# Altium footprint library PcbLib1.PcbLib: 21 footprints (part 2 of 2)
Each footprint in its own frame and in the unit in brackets; x right, y up, seen from the top. Pads: shape width x height; smd on the part's side, far side on the other; paste and mask are expansions set on the pad; w line width, h text height; cw(c..) or ccw(c..) is an arc to the next point about the centre after c.
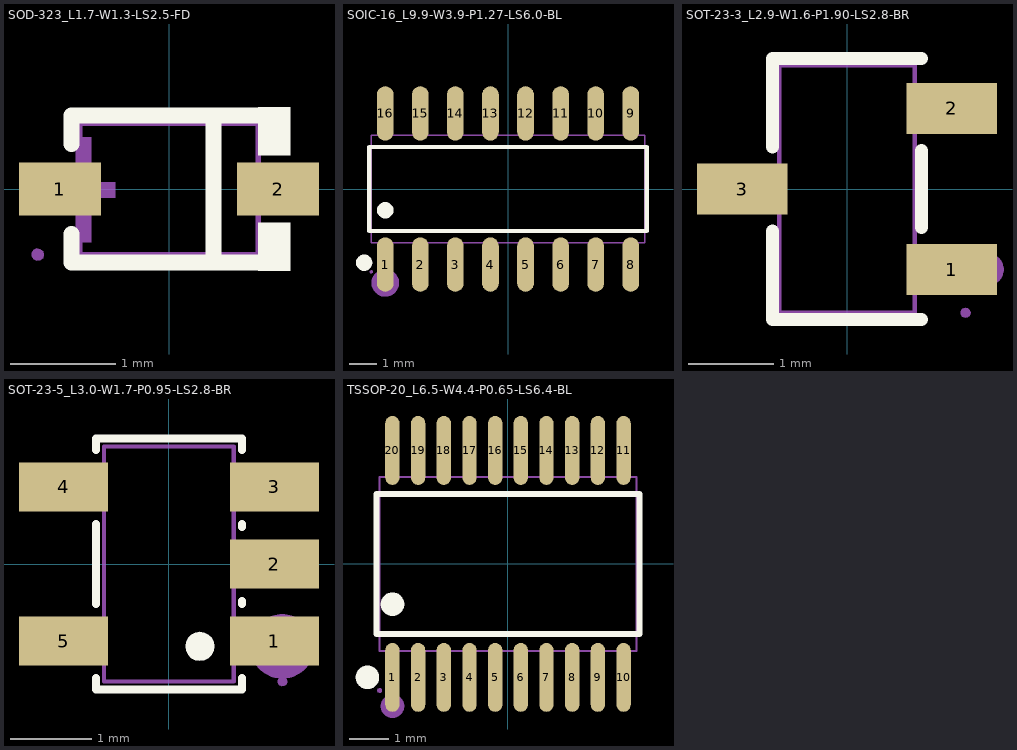
[diagram p1: the footprints below, top view; thin cyan lines are the x and y axes]

## SOD-323_L1.7-W1.3-LS2.5-FD [mm]
pads (2):
  rect 0.78x0.5 smd: 1(-1.039,0) 2(1.039,0)
Top Overlay:
  region: 0.851,-0.32 1.156,-0.32 1.156,-0.777 0.851,-0.777
  region: 0.851,0.32 1.156,0.32 1.156,0.777 0.851,0.777
  lines w0.152: -0.927,-0.429 -0.927,-0.701 0.927,-0.701 ; -0.927,0.429 -0.927,0.701 0.927,0.701 ; 0.422,-0.701 0.422,0.701
Mechanical 2:
  region: -0.889,-0.508 -0.889,0.493 -0.739,0.493 -0.739,-0.508
  region: 1.316,-0.074 1.316,0.076 0.716,0.076 0.716,-0.074
  region: -1.115,-0.084 -1.115,0.066 -0.513,0.066 -0.513,-0.084
Mechanical 6:
  lines w0.051: -0.851,-0.625 -0.851,0.625 0.851,0.625 0.851,-0.625 -0.851,-0.625
Mechanical 7:
  region: 0.96,-0.16 0.841,-0.16 0.841,0.16 0.96,0.16
  region: -0.96,-0.16 -0.841,-0.16 -0.841,0.16 -0.96,0.16
Mechanical 8:
  region: -1.191,-0.625 -1.199,-0.658 -1.224,-0.681 -1.26,-0.683 -1.29,-0.671 -1.308,-0.643 -1.308,-0.607 -1.29,-0.579 -1.26,-0.566 -1.224,-0.572 -1.199,-0.592
Mechanical 9:
  region: 1.25,-0.16 0.95,-0.16 0.95,0.16 1.25,0.16
  region: -1.25,-0.16 -0.95,-0.16 -0.95,0.16 -1.25,0.16

## SOIC-16_L9.9-W3.9-P1.27-LS6.0-BL [mm]
pads (16):
  oval 0.602x1.971 smd: 1(-4.445,-2.736) 2(-3.175,-2.736) 3(-1.905,-2.736) 4(-0.635,-2.736) 5(0.635,-2.736) 6(1.905,-2.736) 7(3.175,-2.736) 8(4.445,-2.736) 9(4.445,2.736) 10(3.175,2.736) 11(1.905,2.736) 12(0.635,2.736) 13(-0.635,2.736) 14(-1.905,2.736) 15(-3.175,2.736) 16(-4.445,2.736)
Top Overlay:
  lines w0.152: -5.027,-1.521 5.027,-1.521 5.027,1.521 -5.027,1.521 -5.027,-1.521
  lines w0.3: -5.357,-2.667 -5.347,-2.616 -5.321,-2.57 -5.281,-2.537 -5.232,-2.52 -5.182,-2.52 -5.131,-2.537 -5.093,-2.57 -5.065,-2.616 -5.057,-2.667 -5.065,-2.718 -5.093,-2.764 -5.131,-2.797 -5.182,-2.814 -5.232,-2.814 -5.281,-2.797 -5.321,-2.764 -5.347,-2.718 -5.357,-2.667 ; -4.595,-0.77 -4.585,-0.719 -4.559,-0.673 -4.519,-0.64 -4.47,-0.622 -4.42,-0.622 -4.369,-0.64 -4.331,-0.673 -4.303,-0.719 -4.295,-0.77 -4.303,-0.82 -4.331,-0.866 -4.369,-0.899 -4.42,-0.917 -4.47,-0.917 -4.519,-0.899 -4.559,-0.866 -4.585,-0.82 -4.595,-0.77
Mechanical 2:
  lines w0.5: -4.691,-3.434 -4.691,-3.365 -4.674,-3.299 -4.638,-3.244 -4.59,-3.195 -4.529,-3.165 -4.463,-3.15 -4.394,-3.155 -4.331,-3.178 -4.275,-3.218 -4.232,-3.269 -4.204,-3.332 -4.194,-3.401 -4.204,-3.467 -4.232,-3.531 -4.275,-3.584 -4.331,-3.622 -4.394,-3.645 -4.463,-3.65 -4.529,-3.635 -4.59,-3.604 -4.638,-3.559 -4.674,-3.5 -4.691,-3.434
Mechanical 6:
  lines w0.051: -4.95,-1.951 4.95,-1.951 4.95,1.951 -4.95,1.951 -4.95,-1.951
Mechanical 7:
  region: 4.229,2.309 4.229,1.941 4.661,1.941 4.661,2.309
  region: 2.959,2.309 2.959,1.941 3.391,1.941 3.391,2.309
  region: 1.689,2.309 1.689,1.941 2.121,1.941 2.121,2.309
  region: 0.419,2.309 0.419,1.941 0.851,1.941 0.851,2.309
  region: -0.851,2.309 -0.851,1.941 -0.419,1.941 -0.419,2.309
  region: -2.121,2.309 -2.121,1.941 -1.689,1.941 -1.689,2.309
  region: -3.391,2.309 -3.391,1.941 -2.959,1.941 -2.959,2.309
  region: -4.661,2.309 -4.661,1.941 -4.229,1.941 -4.229,2.309
  region: 4.229,-2.309 4.229,-1.941 4.661,-1.941 4.661,-2.309
  region: 2.959,-2.309 2.959,-1.941 3.391,-1.941 3.391,-2.309
  region: 1.689,-2.309 1.689,-1.941 2.121,-1.941 2.121,-2.309
  region: 0.419,-2.309 0.419,-1.941 0.851,-1.941 0.851,-2.309
  region: -0.851,-2.309 -0.851,-1.941 -0.419,-1.941 -0.419,-2.309
  region: -2.121,-2.309 -2.121,-1.941 -1.689,-1.941 -1.689,-2.309
  region: -3.391,-2.309 -3.391,-1.941 -2.959,-1.941 -2.959,-2.309
  region: -4.661,-2.309 -4.661,-1.941 -4.229,-1.941 -4.229,-2.309
Mechanical 8:
  region: -4.889,-3 -4.9,-3.033 -4.925,-3.056 -4.958,-3.058 -4.989,-3.045 -5.006,-3.018 -5.006,-2.982 -4.989,-2.954 -4.958,-2.941 -4.925,-2.946 -4.9,-2.967
Mechanical 9:
  region: 4.229,3 4.229,2.299 4.661,2.299 4.661,3
  region: 2.959,3 2.959,2.299 3.391,2.299 3.391,3
  region: 1.689,3 1.689,2.299 2.121,2.299 2.121,3
  region: 0.419,3 0.419,2.299 0.851,2.299 0.851,3
  region: -0.851,3 -0.851,2.299 -0.419,2.299 -0.419,3
  region: -2.121,3 -2.121,2.299 -1.689,2.299 -1.689,3
  region: -3.391,3 -3.391,2.299 -2.959,2.299 -2.959,3
  region: -4.661,3 -4.661,2.299 -4.229,2.299 -4.229,3
  region: 4.229,-3 4.229,-2.301 4.661,-2.301 4.661,-3
  region: 2.959,-3 2.959,-2.301 3.391,-2.301 3.391,-3
  region: 1.689,-3 1.689,-2.301 2.121,-2.301 2.121,-3
  region: 0.419,-3 0.419,-2.301 0.851,-2.301 0.851,-3
  region: -0.851,-3 -0.851,-2.301 -0.419,-2.301 -0.419,-3
  region: -2.121,-3 -2.121,-2.301 -1.689,-2.301 -1.689,-3
  region: -3.391,-3 -3.391,-2.301 -2.959,-2.301 -2.959,-3
  region: -4.661,-3 -4.661,-2.301 -4.229,-2.301 -4.229,-3

## SOT-23-3_L2.9-W1.6-P1.90-LS2.8-BR [mm]
pads (3):
  rect 1.069x0.599 smd: 1(1.234,-0.95) 2(1.234,0.95) 3(-1.234,0)
Top Overlay:
  lines w0.152: -0.876,-0.495 -0.876,-1.537 0.876,-1.537 ; -0.876,0.495 -0.876,1.537 0.876,1.537 ; 0.876,-0.455 0.876,0.455
Mechanical 2:
  lines w0.201: 1.552,-0.95 1.56,-0.907 1.587,-0.871 1.628,-0.853 1.674,-0.853 1.712,-0.871 1.74,-0.907 1.75,-0.95 1.74,-0.993 1.712,-1.029 1.674,-1.049 1.628,-1.049 1.587,-1.029 1.56,-0.993 1.552,-0.95
Mechanical 6:
  lines w0.051: -0.8,-1.46 0.8,-1.46 0.8,1.46 -0.8,1.46 -0.8,-1.46
Mechanical 7:
  region: -0.96,-0.201 -0.96,0.201 -0.79,0.201 -0.79,-0.201
  region: 0.79,0.749 0.79,1.151 0.96,1.151 0.96,0.749
  region: 0.79,-1.151 0.79,-0.749 0.96,-0.749 0.96,-1.151
Mechanical 8:
  region: 1.46,-1.46 1.45,-1.494 1.425,-1.514 1.392,-1.519 1.361,-1.506 1.341,-1.478 1.341,-1.443 1.361,-1.415 1.392,-1.402 1.425,-1.407 1.45,-1.427
Mechanical 9:
  region: -0.95,-0.201 -0.95,0.201 -1.4,0.201 -1.4,-0.201
  region: 0.95,0.749 0.95,1.151 1.4,1.151 1.4,0.749
  region: 0.95,-1.151 0.95,-0.749 1.4,-0.749 1.4,-1.151

## SOT-23-5_L3.0-W1.7-P0.95-LS2.8-BR [mm]
pads (5):
  rect 1.1x0.599 smd: 1(1.3,-0.95) 2(1.3,0) 3(1.3,0.95) 4(-1.298,0.95) 5(-1.298,-0.95)
Top Overlay:
  region: 0.206,-1.016 0.213,-0.96 0.239,-0.909 0.277,-0.871 0.328,-0.846 0.381,-0.836 0.437,-0.846 0.488,-0.871 0.526,-0.909 0.551,-0.96 0.559,-1.016 0.551,-1.069 0.526,-1.12 0.488,-1.161 0.437,-1.186 0.381,-1.194 0.328,-1.186 0.277,-1.161 0.239,-1.12 0.213,-1.069 0.206,-1.016
  lines w0.099: -0.899,-1.405 -0.899,-1.549 0.902,-1.549 0.902,-1.405 ; -0.899,-0.495 -0.899,0.495 ; -0.899,1.405 -0.899,1.549 0.902,1.549 0.902,1.405 ; 0.902,-0.495 0.902,-0.455 ; 0.902,0.455 0.902,0.495
Mechanical 2:
  lines w0.399: 1.199,-1.016 1.209,-0.953 1.237,-0.897 1.28,-0.853 1.336,-0.826 1.397,-0.815 1.46,-0.826 1.516,-0.853 1.56,-0.897 1.587,-0.953 1.598,-1.016 1.587,-1.077 1.56,-1.133 1.516,-1.176 1.46,-1.206 1.397,-1.214 1.336,-1.206 1.28,-1.176 1.237,-1.133 1.209,-1.077 1.199,-1.016
Mechanical 6:
  lines w0.051: -0.8,-1.45 -0.8,1.45 0.8,1.45 0.8,-1.45 -0.8,-1.45
Mechanical 7:
  region: -0.96,-1.148 -0.96,-0.749 -0.79,-0.749 -0.79,-1.148
  region: -0.96,0.752 -0.96,1.151 -0.79,1.151 -0.79,0.752
  region: 0.79,0.752 0.79,1.151 0.96,1.151 0.96,0.752
  region: 0.79,-0.198 0.79,0.201 0.96,0.201 0.96,-0.198
  region: 0.79,-1.148 0.79,-0.749 0.96,-0.749 0.96,-1.148
Mechanical 8:
  region: 1.46,-1.45 1.45,-1.481 1.425,-1.504 1.392,-1.509 1.361,-1.494 1.344,-1.466 1.344,-1.433 1.361,-1.405 1.392,-1.389 1.425,-1.394 1.45,-1.417
Mechanical 9:
  region: -1.4,-1.148 -1.4,-0.749 -0.95,-0.749 -0.95,-1.148
  region: -1.4,0.752 -1.4,1.151 -0.95,1.151 -0.95,0.752
  region: 0.95,0.752 0.95,1.151 1.402,1.151 1.402,0.752
  region: 0.95,-0.198 0.95,0.201 1.402,0.201 1.402,-0.198
  region: 0.95,-1.148 0.95,-0.749 1.402,-0.749 1.402,-1.148

## TSSOP-20_L6.5-W4.4-P0.65-LS6.4-BL [mil]
pads (20):
  oval 14.3x68.6 smd: 1(-115.1,-113) 2(-89.5,-113) 3(-63.9,-113) 4(-38.3,-113) 5(-12.7,-113) 6(12.8,-113) 7(38.4,-113) 8(64,-113) 9(89.6,-113) 10(115.2,-113) 11(115.2,113.1) 12(89.6,113.1) 13(64,113.1) 14(38.4,113.1) 15(12.8,113.1) 16(-12.7,113.1) 17(-38.3,113.1) 18(-63.9,113.1) 19(-89.5,113.1) 20(-115.1,113.1)
Top Overlay:
  lines w6: -130.9,-69.7 131,-69.7 131,69.8 -130.9,69.8 -130.9,-69.7
  lines w11.8: -146,-113 -145.6,-111 -144.6,-109.2 -143,-107.9 -141.1,-107.2 -139.1,-107.2 -137.1,-107.9 -135.6,-109.2 -134.5,-111 -134.2,-113 -134.5,-115 -135.6,-116.8 -137.1,-118.1 -139.1,-118.8 -141.1,-118.8 -143,-118.1 -144.6,-116.8 -145.6,-115 -146,-113 ; -121,-40.1 -120.7,-38.1 -119.6,-36.3 -118.1,-35 -116.1,-34.3 -114.1,-34.3 -112.2,-35 -110.6,-36.3 -109.6,-38.1 -109.2,-40.1 -109.6,-42.1 -110.6,-43.9 -112.2,-45.2 -114.1,-45.9 -116.1,-45.9 -118.1,-45.2 -119.6,-43.9 -120.7,-42.1 -121,-40.1
Mechanical 2:
  lines w11.8: -121,-141.7 -120.7,-139.7 -119.6,-137.9 -118.1,-136.6 -116.1,-135.9 -114.1,-135.9 -112.2,-136.6 -110.6,-137.9 -109.6,-139.7 -109.2,-141.7 -109.6,-143.7 -110.6,-145.5 -112.2,-146.8 -114.1,-147.5 -116.1,-147.5 -118.1,-146.8 -119.6,-145.5 -120.7,-143.7 -121,-141.7
Mechanical 6:
  lines w2: -127.9,-86.6 128,-86.6 128,86.7 -127.9,86.7 -127.9,-86.6
Mechanical 7:
  region: 110.1,102.8 110.1,86.3 120.3,86.3 120.3,102.8
  region: 84.5,102.8 84.5,86.3 94.7,86.3 94.7,102.8
  region: 58.9,102.8 58.9,86.3 69.1,86.3 69.1,102.8
  region: 33.3,102.8 33.3,86.3 43.5,86.3 43.5,102.8
  region: 7.7,102.8 7.7,86.3 18,86.3 18,102.8
  region: -17.9,102.8 -17.9,86.3 -7.6,86.3 -7.6,102.8
  region: -43.5,102.8 -43.5,86.3 -33.2,86.3 -33.2,102.8
  region: -69.1,102.8 -69.1,86.3 -58.8,86.3 -58.8,102.8
  region: -94.6,102.8 -94.6,86.3 -84.4,86.3 -84.4,102.8
  region: -120.2,102.8 -120.2,86.3 -110,86.3 -110,102.8
  region: 110.1,-102.7 110.1,-86.2 120.3,-86.2 120.3,-102.7
  region: 84.5,-102.7 84.5,-86.2 94.7,-86.2 94.7,-102.7
  region: 58.9,-102.7 58.9,-86.2 69.1,-86.2 69.1,-102.7
  region: 33.3,-102.7 33.3,-86.2 43.5,-86.2 43.5,-102.7
  region: 7.7,-102.7 7.7,-86.2 18,-86.2 18,-102.7
  region: -17.9,-102.7 -17.9,-86.2 -7.6,-86.2 -7.6,-102.7
  region: -43.5,-102.7 -43.5,-86.2 -33.2,-86.2 -33.2,-102.7
  region: -69.1,-102.7 -69.1,-86.2 -58.8,-86.2 -58.8,-102.7
  region: -94.6,-102.7 -94.6,-86.2 -84.4,-86.2 -84.4,-102.7
  region: -120.2,-102.7 -120.2,-86.2 -110,-86.2 -110,-102.7
Mechanical 8:
  region: -125.5,-125.9 -125.9,-127.2 -126.9,-128.1 -128.2,-128.3 -129.5,-127.7 -130.2,-126.6 -130.2,-125.3 -129.5,-124.2 -128.2,-123.6 -126.9,-123.8 -125.9,-124.7
Mechanical 9:
  region: 110.1,126 110.1,102.4 120.3,102.4 120.3,126
  region: 84.5,126 84.5,102.4 94.7,102.4 94.7,126
  region: 58.9,126 58.9,102.4 69.1,102.4 69.1,126
  region: 33.3,126 33.3,102.4 43.5,102.4 43.5,126
  region: 7.7,126 7.7,102.4 18,102.4 18,126
  region: -17.9,126 -17.9,102.4 -7.6,102.4 -7.6,126
  region: -43.5,126 -43.5,102.4 -33.2,102.4 -33.2,126
  region: -69.1,126 -69.1,102.4 -58.8,102.4 -58.8,126
  region: -94.6,126 -94.6,102.4 -84.4,102.4 -84.4,126
  region: -120.2,126 -120.2,102.4 -110,102.4 -110,126
  region: 110.1,-125.9 110.1,-102.3 120.3,-102.3 120.3,-125.9
  region: 84.5,-125.9 84.5,-102.3 94.7,-102.3 94.7,-125.9
  region: 58.9,-125.9 58.9,-102.3 69.1,-102.3 69.1,-125.9
  region: 33.3,-125.9 33.3,-102.3 43.5,-102.3 43.5,-125.9
  region: 7.7,-125.9 7.7,-102.3 18,-102.3 18,-125.9
  region: -17.9,-125.9 -17.9,-102.3 -7.6,-102.3 -7.6,-125.9
  region: -43.5,-125.9 -43.5,-102.3 -33.2,-102.3 -33.2,-125.9
  region: -69.1,-125.9 -69.1,-102.3 -58.8,-102.3 -58.8,-125.9
  region: -94.6,-125.9 -94.6,-102.3 -84.4,-102.3 -84.4,-125.9
  region: -120.2,-125.9 -120.2,-102.3 -110,-102.3 -110,-125.9